# EAGLE library part CY7C65215 (library pimoroni)
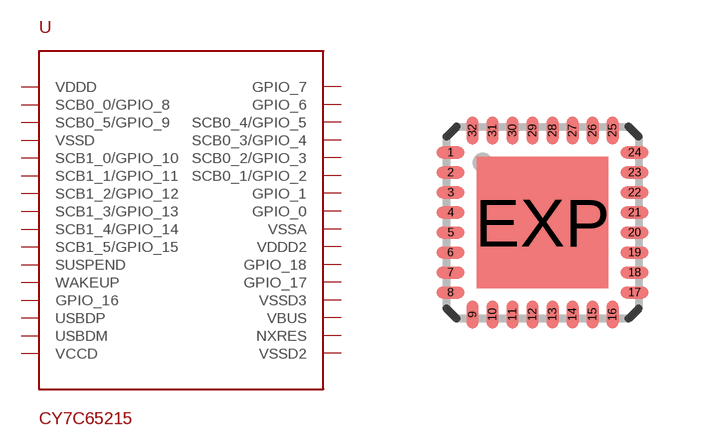
[diagram p17: symbol with the pads of QFN32; footprint QFN32]

Designator prefix -

## CY7C65215  [QFN32]
1  VDDD
2  SCB0_0/GPIO_8
3  SCB0_5/GPIO_9
4  VSSD
5  SCB1_0/GPIO_10
6  SCB1_1/GPIO_11
7  SCB1_2/GPIO_12
8  SCB1_3/GPIO_13
9  SCB1_4/GPIO_14
10  SCB1_5/GPIO_15
11  SUSPEND
12  WAKEUP
13  GPIO_16
14  USBDP
15  USBDM
16  VCCD
17  VSSD2
18  NXRES
19  VBUS
20  VSSD3
21  GPIO_17
22  GPIO_18
23  VDDD2
24  VSSA
25  GPIO_0
26  GPIO_1
27  SCB0_1/GPIO_2
28  SCB0_2/GPIO_3
29  SCB0_3/GPIO_4
30  SCB0_4/GPIO_5
31  GPIO_6
32  GPIO_7

## Footprint QFN32 (pad centres in mm)
32-Pin (5x5 mm) QFN Source: http://www.cypress.com .. 38-12025_0P_V.pdf
smd 0.7 x 0.3: 1 -2.3,1.75; 2 -2.3,1.25; 3 -2.3,0.75; 4 -2.3,0.25; 5 -2.3,-0.25; 6 -2.3,-0.75; 7 -2.3,-1.25; 8 -2.3,-1.75; 17 2.3,-1.75; 18 2.3,-1.25; 19 2.3,-0.75; 20 2.3,-0.25; 21 2.3,0.25; 22 2.3,0.75; 23 2.3,1.25; 24 2.3,1.75
smd 0.3 x 0.7: 9 -1.75,-2.3; 10 -1.25,-2.3; 11 -0.75,-2.3; 12 -0.25,-2.3; 13 0.25,-2.3; 14 0.75,-2.3; 15 1.25,-2.3; 16 1.75,-2.3; 25 1.75,2.3; 26 1.25,2.3; 27 0.75,2.3; 28 0.25,2.3; 29 -0.25,2.3; 30 -0.75,2.3; 31 -1.25,2.3; 32 -1.75,2.3
smd 3.276 x 3.276: EXP 0,0